# EAGLE library part ISO1050 (library den)
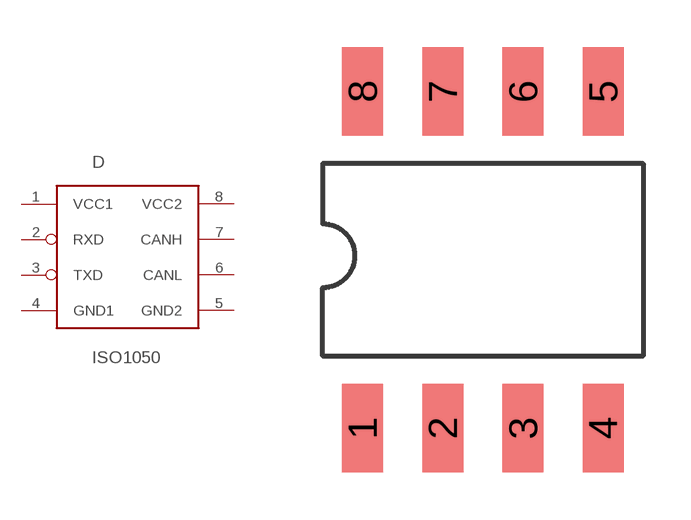
[diagram p28: symbol with the pads of DUB8; footprint DUB8]

Designator prefix D

## ISO1050  [DUB8]
1  VCC1  pas
2  RXD  pas
3  TXD  pas
4  GND1  pas
5  GND2  pas
6  CANL  pas
7  CANH  pas
8  VCC2  pas

## Footprint DUB8 (pad centres in mm)
smd 1.3 x 2.8: 1 0,0; 2 2.54,0; 3 5.08,0; 4 7.62,0; 5 7.62,10.668; 6 5.08,10.668; 7 2.54,10.668; 8 0,10.668